# EAGLE library part MAX5401EKA-T (library tofu)
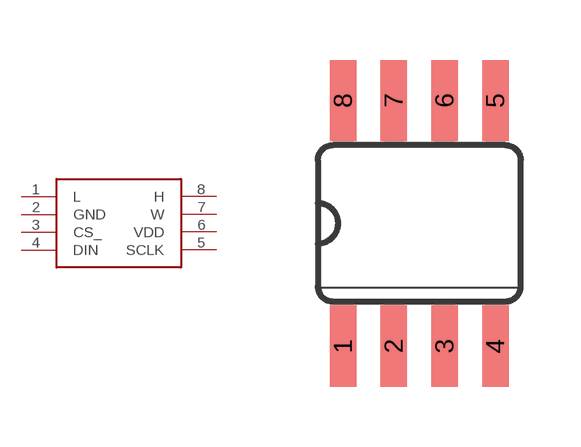
[diagram p4: symbol with the pads of SO08; footprint SO08]

Designator prefix -

## MAX5401EKA-T  [SO08]
1  L
2  GND
3  CS_
4  DIN
5  SCLK  in
6  VDD
7  W
8  H

## Footprint SO08 (pad centres in mm)
Small Outline Package SOIC 150 mil
smd 0.66 x 2.032: 1 -1.905,-3.073; 2 -0.635,-3.073; 3 0.635,-3.073; 4 1.905,-3.073; 5 1.905,3.073; 6 0.635,3.073; 7 -0.635,3.073; 8 -1.905,3.073